# EAGLE library part TLP7820 (library user_ic)
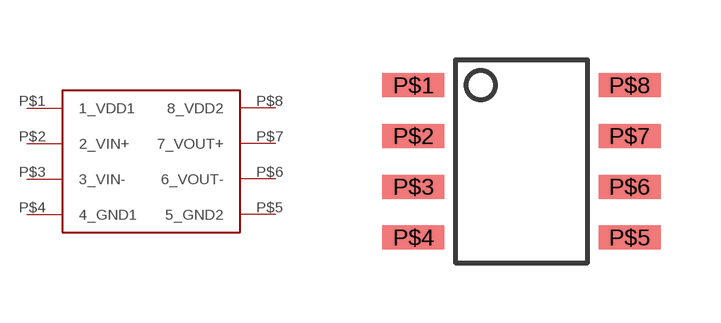
[diagram p18: symbol with the pads of SOIC8; footprint SOIC8]

Designator prefix -

## TLP7820  [SOIC8]
P$1  1_VDD1
P$2  2_VIN+
P$3  3_VIN-
P$4  4_GND1
P$5  5_GND2
P$6  6_VOUT-
P$7  7_VOUT+
P$8  8_VDD2

## Footprint SOIC8 (pad centres in mm)
時々SOPと表記されることがある。 幅が異なるため確認をすること
smd 1.55 x 0.6: P$1 -2.7,1.905; P$2 -2.7,0.635; P$3 -2.7,-0.635; P$4 -2.7,-1.905; P$5 2.7,-1.905; P$6 2.7,-0.635; P$7 2.7,0.635; P$8 2.7,1.905